# Altium schematic symbol library iTOP4412_main_Clasics_v3_2.SCHLIB: 64 symbols
Pins are listed as number, name and electrical type; pins without a type are passive.

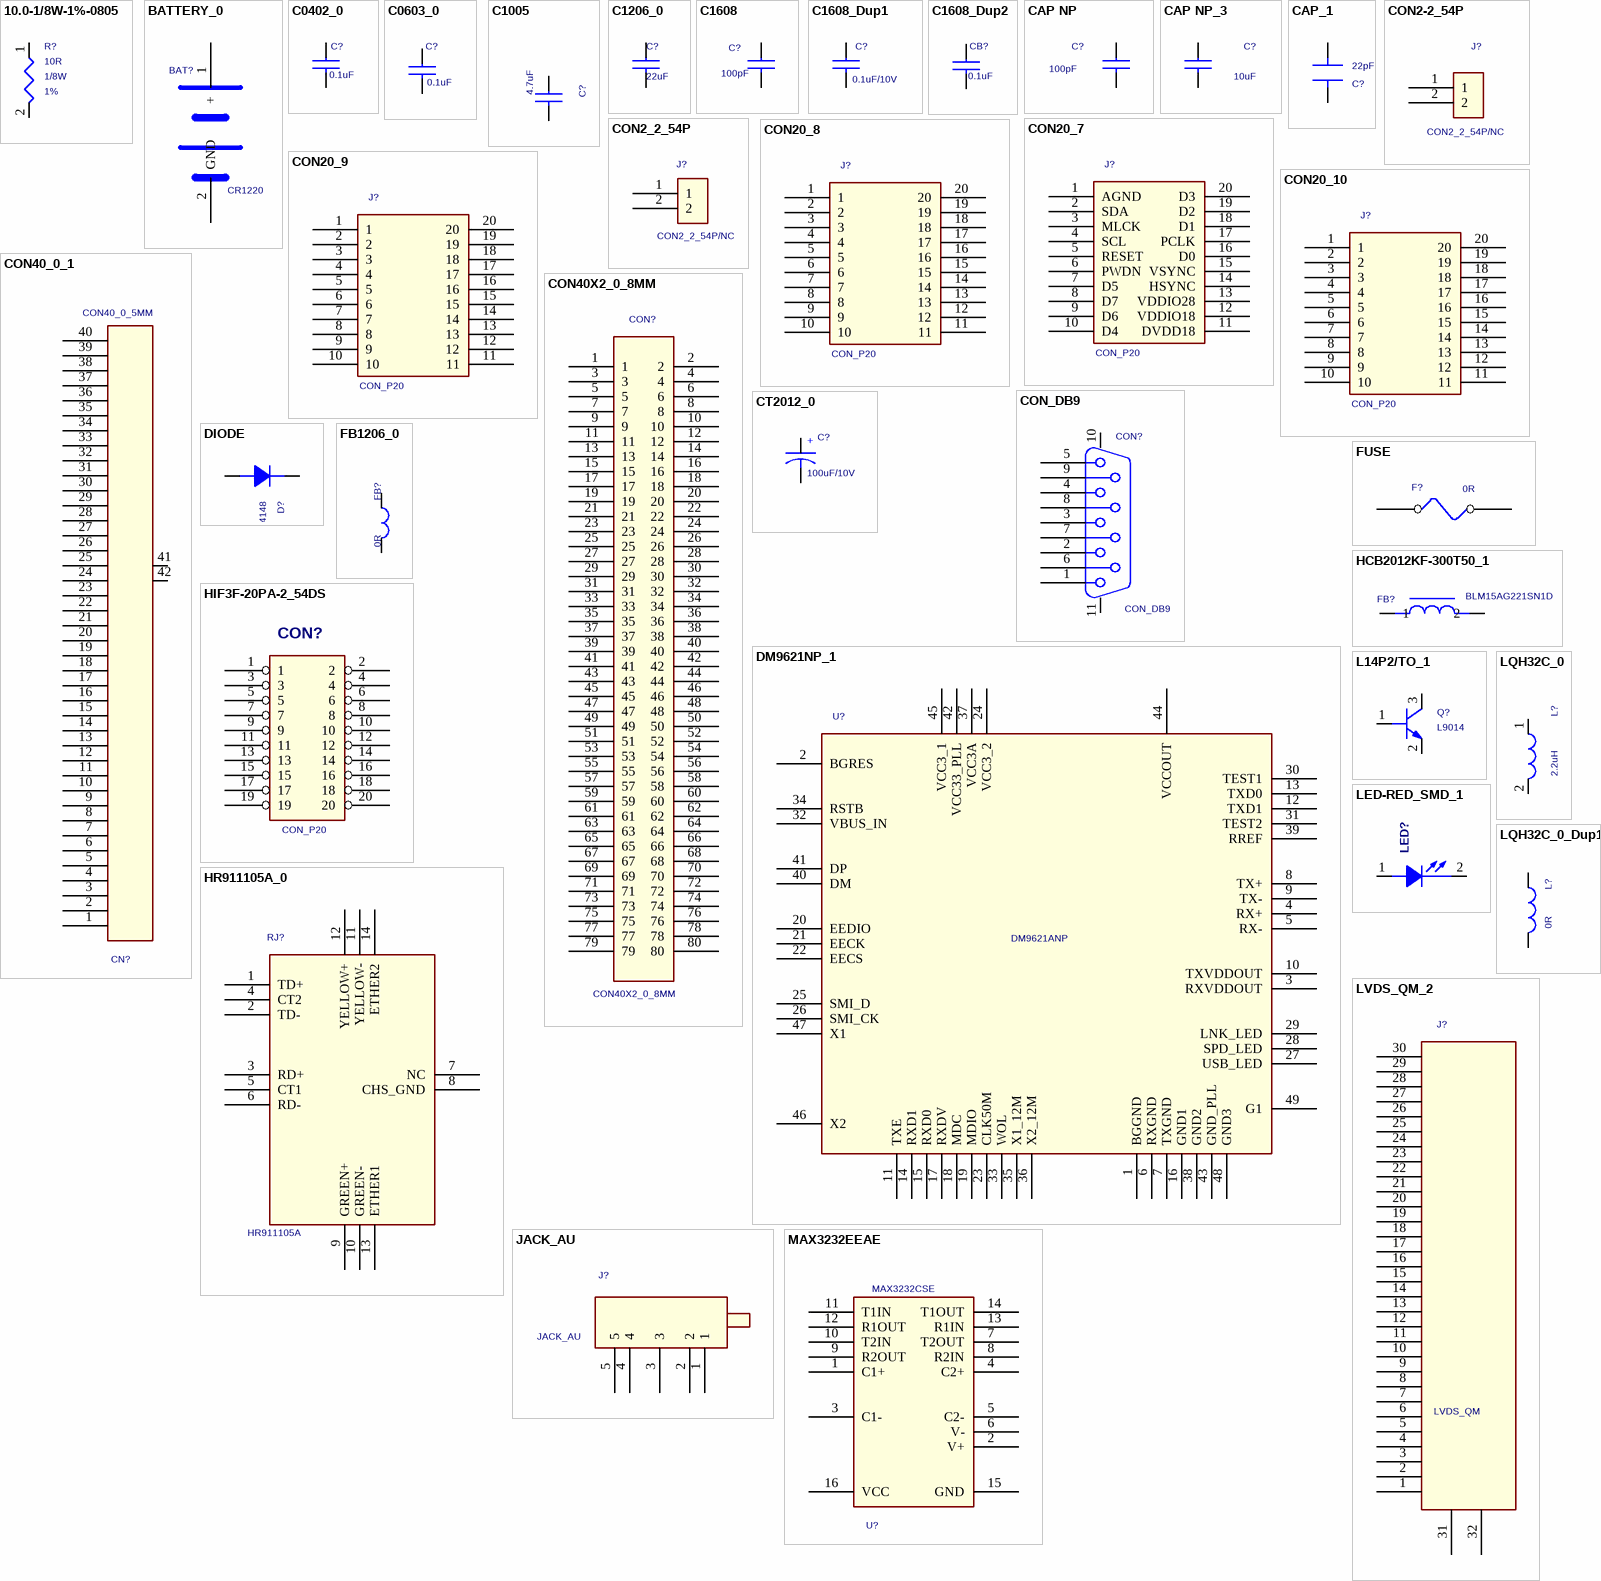
[diagram p0: symbols 10.0-1/8W-1%-0805 to MAX3232EEAE]

## 10.0-1/8W-1%-0805
designator R?, comment 10R  Tolerance: 1%  Wattage: 1/8W
PART#: Rohm-MCR10EZHF10R0
footprint 0805
footprint R0402
pins: 1, 2

## BATTERY_0
designator BAT?, comment CR1220
footprint BATTERY
footprint BAT1
pins: 1 +, 2 GND

## C0402_0
designator C?, comment 0.1uF
footprint C0402
footprint C0402
pins: 1, 2

## C0603_0
designator C?, comment 0.1uF
footprint C0603
footprint C0402
pins: 1, 2

## C1005
designator C?, comment 4.7uF
footprint C1005
footprint C0603
pins: 1, 2

## C1206_0
designator C?, comment 22uF
footprint 1206-A
footprint C0603
pins: 1, 2

## C1608
designator C?, comment 100pF
footprint C1608
footprint C0402
pins: 1, 2

## C1608_Dup1
designator C?, comment 0.1uF/10V
footprint C1608
footprint C0402
pins: 1, 2

## C1608_Dup2
designator CB?, comment 0.1uF
footprint C1608
footprint C0402
pins: 1, 2

## CAP NP
designator C?, comment 100pF
footprint C0402
pins: 1, 2

## CAP NP_3
designator C?, comment 10uF
CER CHIP 1U 10% X5R 0402 10V  L/F; PART_NUMBER: 06-210594-01; PART_TYPE: P06-Cer CAP; MANUFACTURER_NAME: TAIYOYUDEN; MANUFACTURER_PN: LDK105BJ105KV-F; BOM_GRP: PWR_BACKUP-BATT; ROOM: BACKUP_BATT; CHE: 0; UNITCOST: 0.006868; INVENTORY: 160698.000; LEAD_TIME: 56; REMARK: Update on 20090523; SH_INVENTORY: 10000.000; SZ_UNITCOST: 0.024593249; SH_UNITCOST: 0.034128632; SZ_MM_PLANT: 1240,1210,1260; SH_MM_PLANT: 1510,1511,1520,1521; TW_MM_PLANT: 1130;1120;1110;1140; GREEN_STATUS: Green Part; Component Type: 1UF; FOOTPRINT_LINK: smd_0402_cap.dra; DATA_SHEET: http://pdmas.usi.com.tw/pdm?url=http://pdmap.usi.com.tw/Agile/PLMServlet?action=OpenEmailObject&classid=10000&objid=140990334; LIFECYCLE: AMPL2; LASTBUY_DATE: 2007-07-01; SZ_INVENTORY: 0; SZ_LASTBUY_DATE: 2009-04-01; SH_LASTBUY_DATE: 2009-03-31; SZ_LEAD_TIME: 56; SH_LEAD_TIME: 56; USI_Description: CER CHIP 1U 10% X5R 0402 10V  L/F; USI_PN: 06-210594-01
footprint C0603
pins: 1, 2

## CAP_1
designator C?, comment 22pF
footprint C0402
pins: 1, 2

## CON2-2_54P
designator J?, comment CON2_2_54P/NC
footprint a4b-2pa-2_54dsa
pins: 1, 2

## CON2_2_54P
designator J?, comment CON2_2_54P/NC
footprint a4b-2pa-2_54dsa
pins: 1, 2

## CON20_7
designator J?, comment CON_P20
footprint HDRMS2MM-2X10
pins: 1 AGND (power), 2 SDA, 3 MLCK, 4 SCL, 5 RESET, 6 PWDN, 7 D5, 8 D7, 9 D6, 10 D4, 11 DVDD18 (power), 12 VDDIO18 (power), 13 VDDIO28 (power), 14 HSYNC, 15 VSYNC, 16 D0, 17 PCLK, 18 D1, 19 D2, 20 D3

## CON20_8
designator J?, comment CON_P20
footprint HDRMS2MM-2X10
pins: 1, 2, 3, 4, 5, 6, 7, 8, 9, 10, 11, 12, 13, 14, 15, 16, 17, 18, 19, 20

## CON20_9
designator J?, comment CON_P20
footprint HDRMS2MM-2X10
pins: 1, 2, 3, 4, 5, 6, 7, 8, 9, 10, 11, 12, 13, 14, 15, 16, 17, 18, 19, 20

## CON20_10
designator J?, comment CON_P20
footprint HDRMS2MM-2X10
pins: 1, 2, 3, 4, 5, 6, 7, 8, 9, 10, 11, 12, 13, 14, 15, 16, 17, 18, 19, 20

## CON40_0_1
designator CN?, comment CON40_0_5MM
footprint CON60_0_5MM
footprint FPC40-050
pins: 1, 2, 3, 4, 5, 6, 7, 8, 9, 10, 11, 12, 13, 14, 15, 16, 17, 18, 19, 20, 21, 22, 23, 24, 25, 26, 27, 28, 29, 30, 31, 32, 33, 34, 35, 36, 37, 38, 39, 40, 41, 42

## CON40X2_0_8MM
designator CON?
footprint CON40X2_0_8MM
footprint CON2X40-0_5MM-BB
pins: 1, 2, 3, 4, 5, 6, 7, 8, 9, 10, 11, 12, 13, 14, 15, 16, 17, 18, 19, 20, 21, 22, 23, 24, 25, 26, 27, 28, 29, 30, 31, 32, 33, 34, 35, 36, 37, 38, 39, 40, 41, 42, 43, 44, 45, 46, 47, 48, 49, 50, 51, 52, 53, 54, 55, 56, 57, 58, 59, 60, 61, 62, 63, 64, 65, 66, 67, 68, 69, 70, 71, 72, 73, 74, 75, 76, 77, 78, 79, 80

## CON_DB9
designator CON?
footprint DB9
footprint dsub9-ra-fe
pins: 1, 2, 3, 4, 5, 6, 7, 8, 9, 10, 11

## CT2012_0
designator C?, comment 100uF/10V
footprint T2012
footprint c1206
pins: 1, 2
text: +

## DIODE
designator D?, comment IN4148
footprint D1206
pins: 1 A, 2 K

## DM9621NP_1
designator U?, comment DM9621ANP
footprint QFN48-050-0707LH
footprint QFN48-050-0707LH
pins: 1 BGGND, 2 BGRES, 3 RXVDDOUT, 4 RX+, 5 RX-, 6 RXGND, 7 TXGND, 8 TX+, 9 TX-, 10 TXVDDOUT, 11 TXE, 12 TXD1, 13 TXD0, 14 RXD1, 15 RXD0, 16 GND1, 17 RXDV, 18 MDC, 19 MDIO, 20 EEDIO, 21 EECK, 22 EECS, 23 CLK50M, 24 VCC3_2, 25 SMI_D, 26 SMI_CK, 27 USB_LED, 28 SPD_LED, 29 LNK_LED, 30 TEST1, 31 TEST2, 32 VBUS_IN, 33 WOL, 34 RSTB, 35 X1_12M, 36 X2_12M, 37 VCC3A, 38 GND2, 39 RREF, 40 DM, 41 DP, 42 VCC33_PLL, 43 GND_PLL, 44 VCCOUT, 45 VCC3_1, 46 X2, 47 X1, 48 GND3, 49 G1

## FB1206_0
designator FB?, comment 0R
footprint 1206-A
footprint FB0603
pins: 1, 2

## FUSE
designator F?, comment 0R
footprint R0603
pins: 1, 2

## HCB2012KF-300T50_1
designator FB?, comment BLM15AG221SN1D
footprint FB2012
footprint L0402
pins: 1, 2

## HIF3F-20PA-2_54DS
designator CON?, comment CON_P20
footprint 3F-20PA-L
footprint HDRMS2MM-2X10
pins: 1, 2, 3, 4, 5, 6, 7, 8, 9, 10, 11, 12, 13, 14, 15, 16, 17, 18, 19, 20

## HR911105A_0
designator RJ?, comment HR911105A
footprint RJ8-SRLBY
pins: 1 TD+, 2 TD-, 3 RD+, 4 CT2, 5 CT1, 6 RD-, 7 NC, 8 CHS_GND, 9 GREEN+, 10 GREEN-, 11 YELLOW-, 12 YELLOW+, 13 ETHER1, 14 ETHER2

## JACK_AU
designator J?
footprint ear_jack
pins: 1, 2, 3, 4, 5

## L14P2/TO_1
designator Q?, comment L9014
footprint SOT-23
pins: 1 BASE, 2 EMITTER, 3 COLLECTOR

## LED-RED_SMD_1
designator LED?, comment LED-Red (SMD 2012)  (value not drawn)
footprint LED-3216
footprint LED-2012
pins: 1 ANODE, 2 CATHODE

## LQH32C_0
designator L?, comment 2.2uH
footprint LQH32C
footprint L3X3MM
pins: 1, 2

## LQH32C_0_Dup1
designator L?, comment 0R
footprint LQH32C
footprint L0402
pins: 1, 2

## LVDS_QM_2
designator J?, comment LVDS_QM
footprint fpc30-050
pins: 1 $PIN30, 2 $PIN29, 3 $PIN28, 4 $PIN27, 5 $PIN26, 6 $PIN25, 7 $PIN24, 8 $PIN22, 9 $PIN21, 10 $PIN20, 11 $PIN19, 12 $PIN18, 13 $PIN17, 14 $PIN16, 15 $PIN15, 16 $PIN14, 17 $PIN13, 18 $PIN12, 19 $PIN11, 20 $PIN10, 21 $PIN9, 22 $PIN8, 23 $PIN7, 24 $PIN6, 25 $PIN5, 26 $PIN4, 27 $PIN3, 28 $PIN2, 29 $PIN1, 30 $PIN0, 31, 32

## MAX3232EEAE
designator U?, comment MAX3232CSE
footprint 16
footprint SOIC16
pins: 1 C1+, 2 V+, 3 C1-, 4 C2+, 5 C2-, 6 V-, 7 T2OUT, 8 R2IN, 9 R2OUT, 10 T2IN, 11 T1IN, 12 R1OUT, 13 R1IN, 14 T1OUT, 15 GND (power), 16 VCC (power)

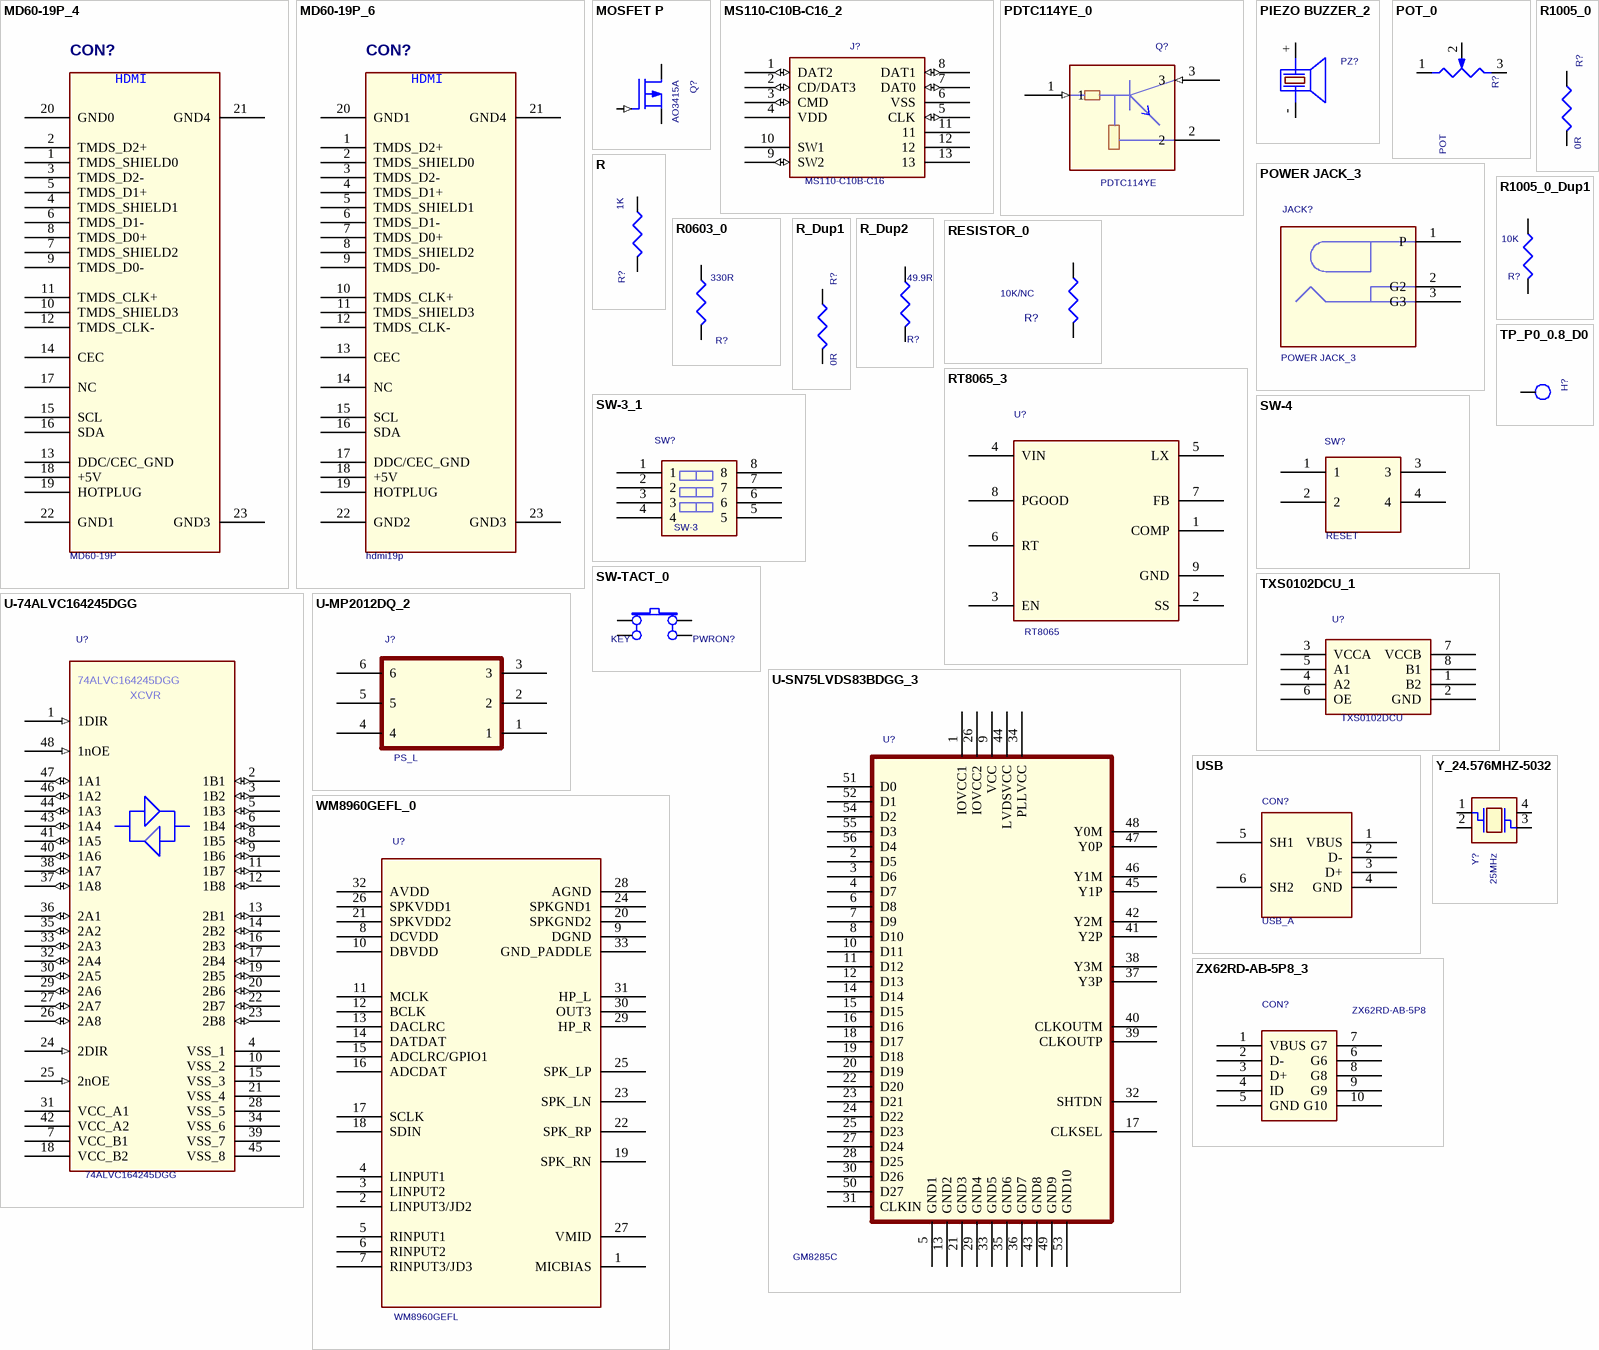
[diagram p1: symbols MD60-19P_4 to ZX62RD-AB-5P8_3]

## MD60-19P_4
designator CON?, comment MD60-19P
footprint MD60-19P
footprint HDMI-C
pins: 1 TMDS_SHIELD0, 2 TMDS_D2+, 3 TMDS_D2-, 4 TMDS_SHIELD1, 5 TMDS_D1+, 6 TMDS_D1-, 7 TMDS_SHIELD2, 8 TMDS_D0+, 9 TMDS_D0- (power), 10 TMDS_SHIELD3, 11 TMDS_CLK+, 12 TMDS_CLK-, 13 DDC/CEC_GND, 14 CEC, 15 SCL, 16 SDA, 17 NC, 18 +5V, 19 HOTPLUG, 20 GND0 (power), 21 GND4 (power), 22 GND1 (power), 23 GND3 (power)
text: HDMI

## MD60-19P_6
designator CON?, comment hdmi19p
footprint MD60-19P
footprint md60-19p
pins: 1 TMDS_D2+, 2 TMDS_SHIELD0, 3 TMDS_D2-, 4 TMDS_D1+, 5 TMDS_SHIELD1, 6 TMDS_D1-, 7 TMDS_D0+, 8 TMDS_SHIELD2, 9 TMDS_D0- (power), 10 TMDS_CLK+, 11 TMDS_SHIELD3, 12 TMDS_CLK-, 13 CEC, 14 NC, 15 SCL, 16 SDA, 17 DDC/CEC_GND, 18 +5V, 19 HOTPLUG, 20 GND1 (power), 21 GND4 (power), 22 GND2 (power), 23 GND3 (power)
text: HDMI

## MOSFET P
designator Q?, comment AO3415A
footprint SOT-23
pins: 1 GATE (in), 2 DRAIN, 3 SOURCE

## MS110-C10B-C16_2
designator J?, comment MS110-C10B-C16
footprint TF-CARD
pins: 1 DAT2 (io), 2 CD/DAT3 (io), 3 CMD (io), 4 VDD (power), 5 CLK (io), 6 VSS (power), 7 DAT0 (io), 8 DAT1 (io), 9 SW2 (io), 10 SW1 (power), 11, 12, 13

## PDTC114YE_0
designator Q?, comment PDTC114YE
footprint SOT-23
pins: 1 (in), 2, 3 (in)

## PIEZO BUZZER_2
designator PZ?  (value not drawn)
footprint SPEAKER
pins: +, -

## POT_0
designator R?, comment POT
footprint sr2_54
pins: 1 A, 2 WIPER, 3 B

## POWER JACK_3
designator JACK?
footprint jack-2_5mm_b
pins: 1 P, 2 G2, 3 G3

## R
designator R?, comment 1K
footprint R0402
pins: 1, 2

## R0603_0
designator R?, comment 330R
footprint R0603
footprint R0402
pins: 1, 2

## R1005_0
designator R?, comment 0R
footprint R1005
footprint R0402
pins: 1, 2

## R1005_0_Dup1
designator R?, comment 10K
footprint R1005
footprint R0402
pins: 1, 2

## R_Dup1
designator R?, comment 0R
footprint R0402
pins: 1, 2

## R_Dup2
designator R?, comment 49.9R
PAGE: DEBUG
footprint R0805
footprint R0402
pins: 1, 2

## RESISTOR_0
designator R?, comment 10K/NC
footprint R0402
pins: 1, 2

## RT8065_3
designator U?, comment RT8065
footprint soic8-lh
pins: 1 COMP, 2 SS, 3 EN, 4 VIN, 5 LX, 6 RT, 7 FB, 8 PGOOD, 9 GND

## SW-3_1
designator SW?, comment SW-3
footprint bmkg4
pins: 1, 2, 3, 4, 5, 6, 7, 8

## SW-4
designator SW?, comment RESET
footprint SW_TH_6_6MM
footprint SW4-SMD
pins: 1, 2, 3, 4

## SW-TACT_0
designator PWRON?, comment KEY
footprint SW-TACT
footprint SW4-SMD
pins: 1 I2, 2 I3, 3 1, 4 I1

## TP_P0_0.8_D0
designator H?  (value not drawn)
footprint TP_08
footprint HOLE3_2x6
pins: 1

## TXS0102DCU_1
designator U?, comment TXS0102DCU
footprint tssop8
pins: 1 B2, 2 GND, 3 VCCA, 4 A2, 5 A1, 6 OE, 7 VCCB, 8 B1

## U-74ALVC164245DGG
designator U?  PART_NUMBER: 74ALVC164245DGG  (hidden comment: U-74ALVC164245DGG)
IPN: A78685-001; MFGR: Philips; ValueP: IC,16 Bit XCVR,TSSOP48; DEVICE: 74ALVC164245DGG
footprint TSSOP48
footprint TSSOP_48
pins: 1 1DIR (in), 2 1B1 (io), 3 1B2 (io), 4 VSS_1, 5 1B3 (io), 6 1B4 (io), 7 VCC_B1 (power), 8 1B5 (io), 9 1B6 (io), 10 VSS_2, 11 1B7 (io), 12 1B8 (io), 13 2B1 (io), 14 2B2 (io), 15 VSS_3, 16 2B3 (io), 17 2B4 (io), 18 VCC_B2 (power), 19 2B5 (io), 20 2B6 (io), 21 VSS_4, 22 2B7 (io), 23 2B8 (io), 24 2DIR (in), 25 2nOE (in), 26 2A8 (io), 27 2A7 (io), 28 VSS_5, 29 2A6 (io), 30 2A5 (io), 31 VCC_A1 (power), 32 2A4 (io), 33 2A3 (io), 34 VSS_6, 35 2A2 (io), 36 2A1 (io), 37 1A8 (io), 38 1A7 (io), 39 VSS_7, 40 1A6 (io), 41 1A5 (io), 42 VCC_A2 (power), 43 1A4 (io), 44 1A3 (io), 45 VSS_8, 46 1A2 (io), 47 1A1 (io), 48 1nOE (in)
text: XCVR

## U-MP2012DQ_2
designator J?, comment PS_L
footprint QFN6
footprint SWITCH_DDSZ
pins: 1, 2, 3, 4, 5, 6

## U-SN75LVDS83BDGG_3
designator U?, comment GM8285C
footprint TSSOP56
footprint TSSOP56
pins: 1 IOVCC1, 2 D5, 3 D6, 4 D7, 5 GND1, 6 D8, 7 D9, 8 D10, 9 VCC, 10 D11, 11 D12, 12 D13, 13 GND2, 14 D14, 15 D15, 16 D16, 17 CLKSEL, 18 D17, 19 D18, 20 D19, 21 GND3, 22 D20, 23 D21, 24 D22, 25 D23, 26 IOVCC2, 27 D24, 28 D25, 29 GND4, 30 D26, 31 CLKIN, 32 SHTDN, 33 GND5, 34 PLLVCC, 35 GND6, 36 GND7, 37 Y3P, 38 Y3M, 39 CLKOUTP, 40 CLKOUTM, 41 Y2P, 42 Y2M, 43 GND8, 44 LVDSVCC, 45 Y1P, 46 Y1M, 47 Y0P, 48 Y0M, 49 GND9, 50 D27, 51 D0, 52 D1, 53 GND10, 54 D2, 55 D3, 56 D4

## USB
designator CON?, comment USB_A
footprint USB-A2
pins: 1 VBUS, 2 D-, 3 D+, 4 GND, 5 SH1, 6 SH2

## WM8960GEFL_0
designator U?, comment WM8960GEFL
footprint QFN32-050-5X5LH
pins: 1 MICBIAS, 2 LINPUT3/JD2, 3 LINPUT2, 4 LINPUT1, 5 RINPUT1, 6 RINPUT2, 7 RINPUT3/JD3, 8 DCVDD, 9 DGND, 10 DBVDD, 11 MCLK, 12 BCLK, 13 DACLRC, 14 DATDAT, 15 ADCLRC/GPIO1, 16 ADCDAT, 17 SCLK, 18 SDIN, 19 SPK_RN, 20 SPKGND2, 21 SPKVDD2, 22 SPK_RP, 23 SPK_LN, 24 SPKGND1, 25 SPK_LP, 26 SPKVDD1, 27 VMID, 28 AGND, 29 HP_R, 30 OUT3, 31 HP_L, 32 AVDD, 33 GND_PADDLE

## Y_24.576MHZ-5032
designator Y?, comment 25MHz
footprint TAS-5032
footprint X4-2_5X3_2
pins: 1 CIN, 2 GND (power), 3 COUT, 4 GND (power)

## ZX62RD-AB-5P8_3
designator CON?, comment ZX62RD-AB-5P8
footprint MICROUSB-B-H4
pins: 1 VBUS, 2 D-, 3 D+, 4 ID, 5 GND, 6 G6, 7 G7, 8 G8, 9 G9, 10 G10